# Altium footprint library zxevo.PcbLib: 77 footprints (part 1 of 5)
Each footprint in its own frame and in the unit in brackets; x right, y up, seen from the top. Pads: shape width x height; smd on the part's side, far side on the other; paste and mask are expansions set on the pad; w line width, h text height; cw(c..) or ccw(c..) is an arc to the next point about the centre after c.
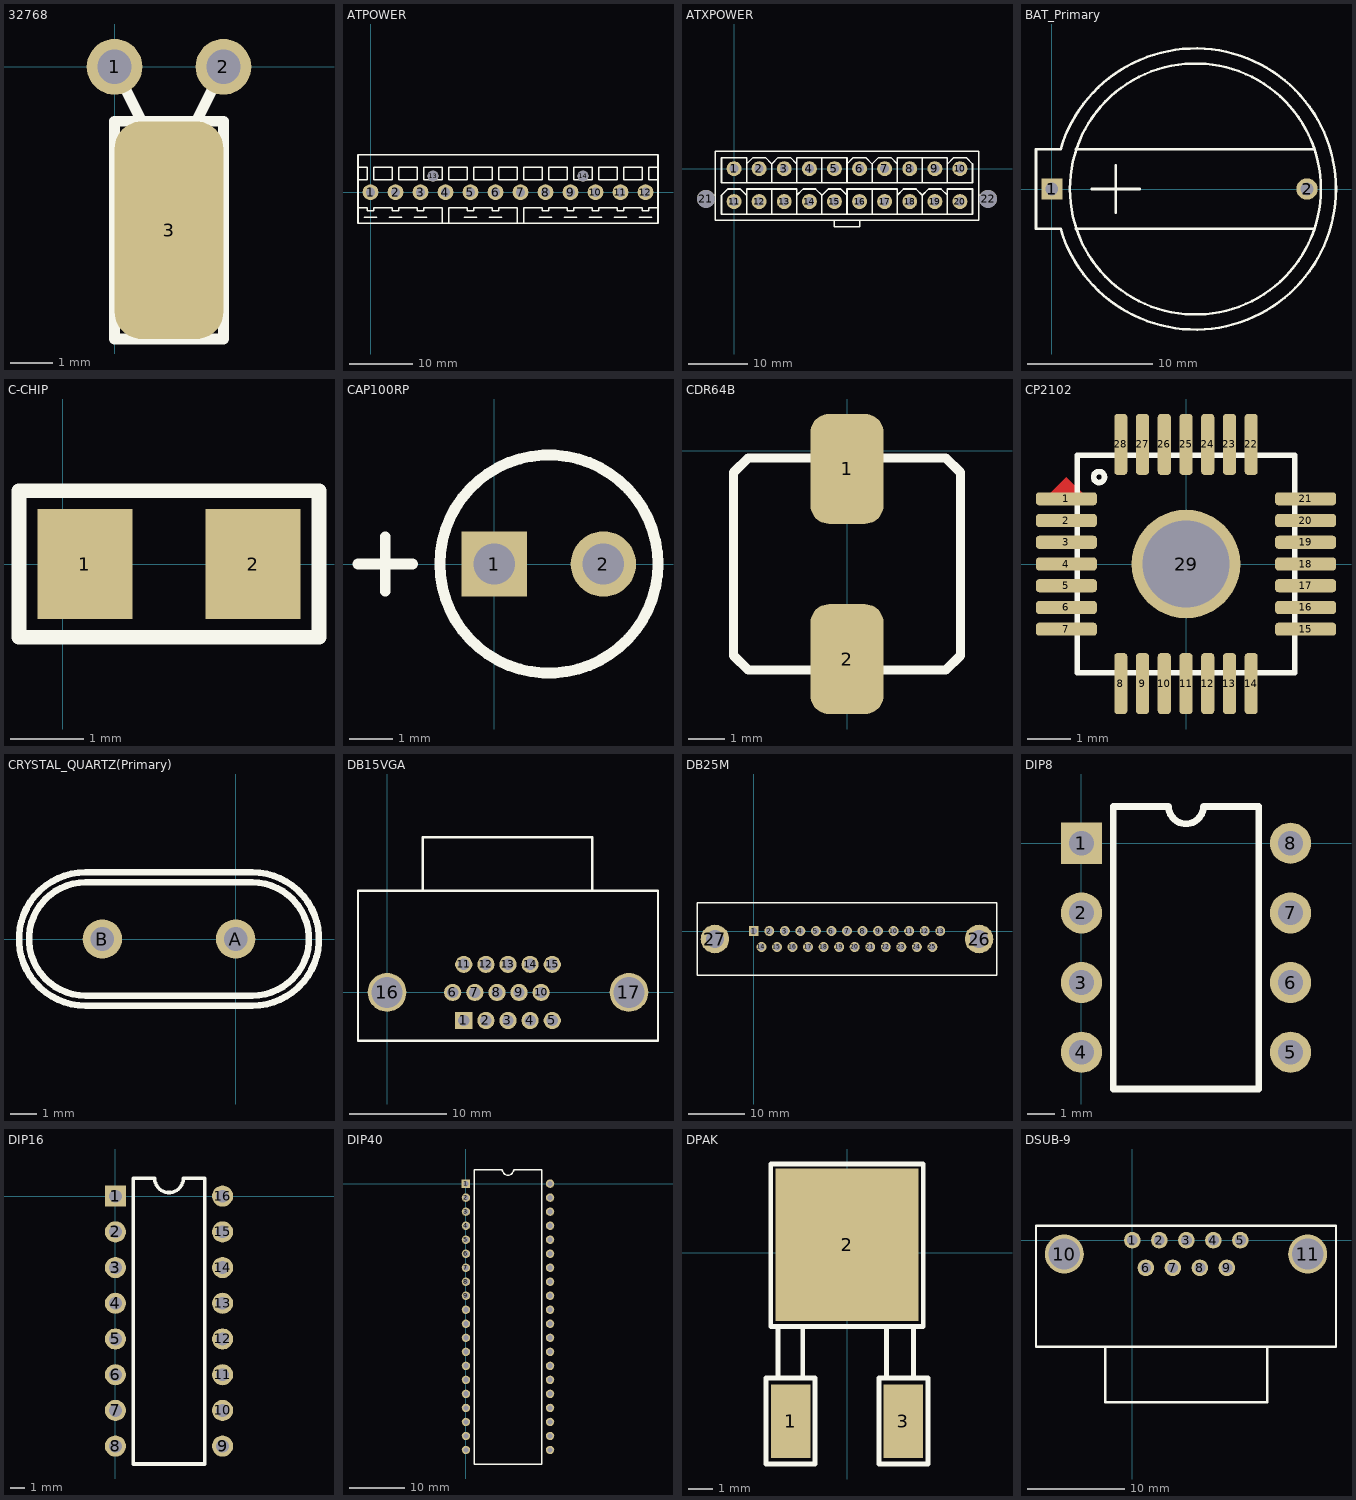
[diagram p0: the footprints below, top view; thin cyan lines are the x and y axes]

## 32768 [mm]
pads (3):
  round 1.3 hole 0.8: 1(0,0) 2(2.54,0)
  rrect50% 2.54x5.08 smd: 3(1.27,-3.81)
Top Overlay:
  lines w0.254: 0,0 0.635,-1.27 1.905,-1.27 2.54,0 ; 0,-6.35 0,-1.27 2.54,-1.27 2.54,-6.35 0,-6.35

## ATPOWER [mm]
pads (14):
  round 2.5 hole 1.5: 1(0,0) 2(3.96,0) 3(7.92,0) 4(11.88,0) 5(15.84,0) 6(19.8,0) 7(23.76,0) 8(27.72,0) 9(31.68,0) 10(35.64,0) 11(39.6,0) 12(43.56,0)
  round 1.7 hole 1.7 unplated: 13(9.9,2.54) 14(33.66,2.54)
Top Overlay:
  lines w0.254: -1.98,-2.475 -0.495,-2.475 -0.495,-2.97 0.495,-2.97 0.495,-2.475 3.465,-2.475 3.465,-2.97 4.455,-2.97 4.455,-2.475 7.425,-2.475 7.425,-2.97 8.415,-2.97 8.415,-2.475 11.385,-2.475 11.385,-4.95 ; -1.98,1.98 -0.495,1.98 -0.495,3.96 -1.98,3.96 ; -0.99,-3.96 0.99,-3.96 ; 2.97,-3.96 4.95,-3.96 ; 6.93,-3.96 8.91,-3.96 ; 12.375,-4.95 12.375,-2.475 15.345,-2.475 15.345,-2.97 16.335,-2.97 16.335,-2.475 19.305,-2.475 19.305,-2.97 20.295,-2.97 20.295,-2.475 23.265,-2.475 23.265,-4.95 ; 14.85,-3.96 16.83,-3.96 ; 18.81,-3.96 20.79,-3.96 ; 24.255,-4.95 24.255,-2.475 27.225,-2.475 27.225,-2.97 28.215,-2.97 28.215,-2.475 31.185,-2.475 31.185,-2.97 32.175,-2.97 32.175,-2.475 35.145,-2.475 35.145,-2.97 36.135,-2.97 36.135,-2.475 39.105,-2.475 39.105,-2.97 40.095,-2.97 40.095,-2.475 43.065,-2.475 43.065,-2.97 44.055,-2.97 44.055,-2.475 45.54,-2.475 ; 26.73,-3.96 28.71,-3.96 ; 30.69,-3.96 32.67,-3.96 ; 34.65,-3.96 36.63,-3.96 ; 38.61,-3.96 40.59,-3.96 ; 42.57,-3.96 44.55,-3.96 ; 45.54,1.98 44.055,1.98 44.055,3.96 45.54,3.96 ; -1.98,-4.95 45.54,-4.95 45.54,5.94 -1.98,5.94 -1.98,-4.95 ; 0.495,1.98 3.465,1.98 3.465,3.96 0.495,3.96 0.495,1.98 ; 4.455,1.98 7.425,1.98 7.425,3.96 4.455,3.96 4.455,1.98 ; 8.415,1.98 11.385,1.98 11.385,3.96 8.415,3.96 8.415,1.98 ; 12.375,1.98 15.345,1.98 15.345,3.96 12.375,3.96 12.375,1.98 ; 16.335,1.98 19.305,1.98 19.305,3.96 16.335,3.96 16.335,1.98 ; 20.295,1.98 23.265,1.98 23.265,3.96 20.295,3.96 20.295,1.98 ; 24.255,1.98 27.225,1.98 27.225,3.96 24.255,3.96 24.255,1.98 ; 28.215,1.98 31.185,1.98 31.185,3.96 28.215,3.96 28.215,1.98 ; 32.175,1.98 35.145,1.98 35.145,3.96 32.175,3.96 32.175,1.98 ; 36.135,1.98 39.105,1.98 39.105,3.96 36.135,3.96 36.135,1.98 ; 40.095,1.98 43.065,1.98 43.065,3.96 40.095,3.96 40.095,1.98

## ATXPOWER [mm]
pads (22):
  round 2.5 hole 1.5: 1(0,0) 2(4.2,0) 3(8.4,0) 4(12.6,0) 5(16.8,0) 6(21,0) 7(25.2,0) 8(29.4,0) 9(33.6,0) 10(37.8,0) 11(0,-5.5) 12(4.2,-5.5) 13(8.4,-5.5) 14(12.6,-5.5) 15(16.8,-5.5) 16(21,-5.5) 17(25.2,-5.5) 18(29.4,-5.5) 19(33.6,-5.5) 20(37.8,-5.5)
  round 3 hole 3 unplated: 21(-4.7,-5.04) 22(42.5,-5.04)
Top Overlay:
  lines w0.254: -3.65,-4.376 ccw(c-4.6,-4.97) -3.598,-5.472 ; -3.556,-5.334 -3.175,-5.334 ; -3.556,-4.445 -3.175,-4.445 ; 2.1,0.8 3.15,1.85 5.25,1.85 6.3,0.8 ; 10.5,-4.45 11.55,-3.4 13.65,-3.4 14.7,-4.45 ; 16.8,-8.65 16.8,-9.7 21,-9.7 21,-8.65 ; 41.021,-5.334 41.402,-5.334 ; 41.021,-4.445 41.402,-4.445 ; 41.444,-5.472 ccw(c42.446,-4.97) 41.496,-4.376 ; 2.1,-7.6 6.3,-7.6 ; 2.1,-7.6 -2.1,-7.6 -2.1,-4.45 -1.05,-3.4 1.05,-3.4 2.1,-4.45 ; 2.1,-7.6 2.1,-4.45 ; 2.1,-4.45 2.1,-3.4 6.3,-3.4 ; 2.1,-2.35 6.3,-2.35 ; 2.1,-2.35 2.1,1.85 -2.1,1.85 -2.1,-2.35 2.1,-2.35 ; 6.3,-7.6 10.5,-7.6 ; 6.3,-7.6 6.3,-3.4 ; 6.3,-3.4 10.5,-3.4 10.5,-7.6 ; 6.3,-2.35 10.5,-2.35 ; 6.3,-2.35 6.3,0.8 ; 6.3,0.8 7.35,1.85 9.45,1.85 10.5,0.8 ; 10.5,-7.6 14.7,-7.6 ; 10.5,-2.35 10.5,0.8 ; 10.5,-2.35 14.7,-2.35 ; 10.5,0.8 10.5,1.85 14.7,1.85 ; 14.7,-7.6 18.9,-7.6 ; 14.7,-7.6 14.7,-4.45 ; 14.7,-4.45 15.75,-3.4 17.85,-3.4 18.9,-4.45 ; 14.7,-2.35 18.9,-2.35 ; 14.7,-2.35 14.7,1.85 ; 14.7,1.85 18.9,1.85 18.9,-2.35 ; 18.9,-7.6 23.1,-7.6 ; 18.9,-7.6 18.9,-4.45 ; 18.9,-4.45 18.9,-3.4 23.1,-3.4 ; 18.9,-2.35 18.9,0.8 19.95,1.85 22.05,1.85 23.1,0.8 ; 18.9,-2.35 23.1,-2.35 ; 23.1,-7.6 27.3,-7.6 ; 23.1,-7.6 23.1,-3.4 ; 23.1,-3.4 27.3,-3.4 27.3,-7.6 ; 23.1,-2.35 27.3,-2.35 ; 23.1,-2.35 23.1,0.8 ; 23.1,-2.35 23.1,0.8 ; 23.1,0.8 24.15,1.85 26.25,1.85 27.3,0.8 ; 27.3,-7.6 31.5,-7.6 ; 27.3,-7.6 27.3,-4.45 28.35,-3.4 30.45,-3.4 31.5,-4.45 ; 27.3,-2.35 27.3,0.8 ; 27.3,-2.35 31.5,-2.35 ; 27.3,0.8 27.3,1.85 31.5,1.85 ; 31.5,-7.6 35.7,-7.6 ; 31.5,-7.6 31.5,-4.45 ; 31.5,-4.45 32.55,-3.4 34.65,-3.4 35.7,-4.45 35.7,-7.6 ; 31.5,-2.35 35.7,-2.35 ; 31.5,-2.35 31.5,1.85 ; 31.5,1.85 35.7,1.85 35.7,-2.35 ; 35.7,-7.6 39.9,-7.6 39.9,-3.4 35.7,-3.4 35.7,-7.6 ; 35.7,-2.35 35.7,0.8 36.75,1.85 38.85,1.85 39.9,0.8 39.9,-2.35 35.7,-2.35 ; -3.15,-8.65 40.95,-8.65 40.95,2.9 -3.15,2.9 -3.15,-8.65
3D body "c-2-1775099-7-e-3d.stp": height 13, standoff -3, extent -5.7,-8.8 43.5,2.1

## BAT_Primary [mm]
pads (2):
  rect 1.7x1.7 hole 1: 1(0,0)
  round 1.7 hole 1: 2(20.32,0)
Top Overlay:
  circle w0.2: c11.43,0 r10
  lines w0.2: 0.635,-3.175 -1.27,-3.175 -1.27,0 -1.27,3.175 0.635,3.175 ; 0.686,-3.162 ccw(c11.43,0) 0.686,3.162 ; 1.905,-3.175 20.955,-3.175 ; 1.905,3.175 20.955,3.175 ; 3.175,0 6.985,0 ; 5.08,-1.905 5.08,1.905
3D body "BS-7 (CR3032).STEP": height 8.99, standoff -3.1, extent -0.508,-11.176 23.876,11.176

## C-CHIP [mm]
pads (2):
  rect 1.3x1.5 smd: 1(0.3,0) 2(2.6,0)
Top Overlay:
  lines w0.2: -0.6,-1 -0.6,1 3.5,1 3.5,-1 -0.6,-1
3D body "C0805J104K5RACTU.STEP": height 1, standoff 0, extent 0.35,-0.725 2.55,0.725

## CAP100RP [mil]
pads (2):
  rect 60x60 hole 38: 1(0,0)
  round 60 hole 38: 2(100,0)
Top Overlay:
  circle w10: c50,0 r100
  lines w10: -125,0 -75,0 ; -100,-25 -100,25

## CDR64B [mm]
pads (2):
  rrect50% 2x3 smd: 1(0,-0.5) 2(0,-5.7)
Top Overlay:
  lines w0.254: -3.1,-5.6 -3.1,-0.6 -2.7,-0.2 2.7,-0.2 3.1,-0.6 3.1,-5.6 2.7,-6 -2.7,-6 -3.1,-5.6

## CP2102 [mm]
pads (29):
  rrect50% 1.4x0.3 smd: 1(-2.75,1.5) 2(-2.75,1) 3(-2.75,0.5) 4(-2.75,0) 5(-2.75,-0.5) 6(-2.75,-1) 7(-2.75,-1.5) 15(2.75,-1.5) 16(2.75,-1) 17(2.75,-0.5) 18(2.75,0) 19(2.75,0.5) 20(2.75,1) 21(2.75,1.5)
  rrect50% 0.3x1.4 smd: 8(-1.5,-2.75) 9(-1,-2.75) 10(-0.5,-2.75) 11(0,-2.75) 12(0.5,-2.75) 13(1,-2.75) 14(1.5,-2.75) 22(1.5,2.75) 23(1,2.75) 24(0.5,2.75) 25(0,2.75) 26(-0.5,2.75) 27(-1,2.75) 28(-1.5,2.75)
  round 2.5 hole 2: 29(0,0)
Top Layer:
  region: -2.25,1.5 -2.75,2 -3.25,1.5
Top Overlay:
  circle w0.127: c-2,2 r0.127
  lines w0.127: -2.5,-2.5 2.5,-2.5 2.5,2.5 -2.5,2.5 -2.5,-2.5

## CRYSTAL_QUARTZ(Primary) [mm]
pads (2):
  round 1.5 hole 0.9: A(0,0) B(-5.08,0)
Top Overlay:
  lines w0.254: -5.715,-2.54 cw(c-5.715,0) -5.715,2.54 0.635,2.54 cw(c0.635,0) 0.635,-2.54 -5.715,-2.54 ; -5.715,-2.159 cw(c-5.715,0) -5.715,2.159 0.635,2.159 cw(c0.635,0) 0.635,-2.159 -5.715,-2.159

## DB15VGA [mil]
pads (17):
  rect 70x70 hole 46: 1(312.13,-114.17)
  round 70 hole 46: 2(402.13,-114.17) 3(492.13,-114.17) 4(582.13,-114.17) 5(672.13,-114.17) 6(267.13,0) 7(357.13,0) 8(447.13,0) 9(537.13,0) 10(627.13,0) 11(312.13,114.17) 12(402.13,114.17) 13(492.13,114.17) 14(582.13,114.17) 15(672.13,114.17)
  round 157.48 hole 125.98: 16(0,0) 17(984.25,0)
Top Overlay:
  lines w10: 145.67,414.96 145.67,631.5 834.65,631.5 834.65,414.96 ; -118.11,-196.85 -118.11,413.39 1102.36,413.39 1102.36,-196.85 -118.11,-196.85

## DB25M [mil]
pads (27):
  rect 70x70 hole 46: 1(0,0)
  round 70 hole 46: 2(109,0) 3(218,0) 4(327,0) 5(436,0) 6(545,0) 7(654,0) 8(763,0) 9(872,0) 10(981,0) 11(1090,0) 12(1199,0) 13(1308,0) 14(54,-112) 15(163,-112) 16(272,-112) 17(381,-112) 18(490,-112) 19(599,-112) 20(708,-112) 21(817,-112) 22(926,-112) 23(1035,-112) 24(1144,-112) 25(1253,-112)
  round 200 hole 124: 26(1580,-56) 27(-272,-56)
Top Overlay:
  lines w10: -398,-311 -398,199 1706,199 1706,-311 -398,-311

## DIP8 [mm]
pads (8):
  rect 1.5x1.5 hole 0.9: 1(0,0)
  round 1.5 hole 0.9: 2(0,-2.54) 3(0,-5.08) 4(0,-7.62) 5(7.62,-7.62) 6(7.62,-5.08) 7(7.62,-2.54) 8(7.62,0)
Top Overlay:
  lines w0.25: 1.16,-8.96 6.46,-8.96 6.46,1.34 4.445,1.34 cw(c3.81,1.34) 3.175,1.34 1.16,1.34 1.16,-8.96

## DIP16 [mm]
pads (16):
  rect 1.5x1.5 hole 0.9: 1(0,0)
  round 1.5 hole 0.9: 2(0,-2.54) 3(0,-5.08) 4(0,-7.62) 5(0,-10.16) 6(0,-12.7) 7(0,-15.24) 8(0,-17.78) 9(7.62,-17.78) 10(7.62,-15.24) 11(7.62,-12.7) 12(7.62,-10.16) 13(7.62,-7.62) 14(7.62,-5.08) 15(7.62,-2.54) 16(7.62,0)
Top Overlay:
  lines w0.254: 1.27,-19.05 1.27,1.27 2.794,1.27 ccw(c3.81,1.27) 4.826,1.27 6.35,1.27 6.35,-19.05 1.27,-19.05

## DIP40 [mil]
pads (40):
  rect 60x60 hole 38: 1(0,0)
  round 60 hole 38: 2(0,-100) 3(0,-200) 4(0,-300) 5(0,-400) 6(0,-500) 7(0,-600) 8(0,-700) 9(0,-800) 10(0,-900) 11(0,-1000) 12(0,-1100) 13(0,-1200) 14(0,-1300) 15(0,-1400) 16(0,-1500) 17(0,-1600) 18(0,-1700) 19(0,-1800) 20(0,-1900) 21(600,-1900) 22(600,-1800) 23(600,-1700) 24(600,-1600) 25(600,-1500) 26(600,-1400) 27(600,-1300) 28(600,-1200) 29(600,-1100) 30(600,-1000) 31(600,-900) 32(600,-800) 33(600,-700) 34(600,-600) 35(600,-500) 36(600,-400) 37(600,-300) 38(600,-200) 39(600,-100) 40(600,0)
Top Overlay:
  lines w10: 60,-2000 60,100 260,100 ccw(c300,100) 340,100 540,100 540,-2000 60,-2000
3D body "c-3-1571552-2-e-3d.stp": height 177.17, standoff -112.83, extent -48.78,-1946.82 647.22,49.18

## DPAK [mm]
pads (3):
  rect 1.6x3 smd: 1(-2.286,-6.858) 3(2.286,-6.858)
  rect 5.8x6.2 smd: 2(0,0.322)
Top Overlay:
  lines w0.2: -2.8,-5.1 -2.8,-3 ; -1.8,-5.1 -1.8,-3 ; 1.6,-5 1.6,-3 ; 2.7,-5.1 2.7,-3 ; -3.3,-8.6 -1.3,-8.6 -1.3,-5.1 -3.3,-5.1 -3.3,-8.6 ; -3.1,-3 -3.1,3.6 3.1,3.6 3.1,-3 -3.1,-3 ; 1.3,-8.6 1.3,-5.1 3.3,-5.1 3.3,-8.6 1.3,-8.6
3D body "User Library-DPAK_TO-252AA.step": height 2.37, standoff -0.03, extent -3.367,-7.398 3.367,2.702

## DSUB-9 [mm]
pads (11):
  round 1.7 hole 1.1: 1(0,0) 2(2.77,0) 3(5.54,0) 4(8.31,0) 5(11.08,0) 6(1.385,-2.84) 7(4.155,-2.84) 8(6.925,-2.84) 9(9.695,-2.84)
  round 4 hole 3.2: 10(-6.98,-1.42) 11(17.98,-1.42)
Top Overlay:
  lines w0.254: -2.77,-10.92 -2.77,-16.62 13.85,-16.62 13.85,-10.92 ; -9.88,-10.92 20.88,-10.92 20.88,1.48 -9.88,1.48 -9.88,-10.92